# EAGLE library part 330-25E (library dec-con)
Tapped Delay Line
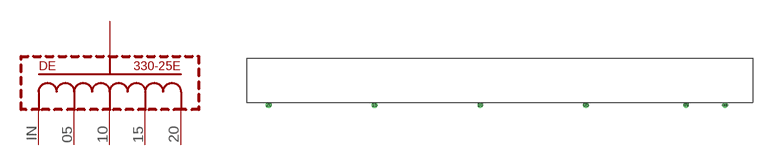
[diagram p50: symbol with the pads of 330-25E; footprint 330-25E]

Designator prefix DE

## 330-25E  [330-25E]
05  5  pas
10  10  pas
15  15  pas
20  20  pas
GND  GND  pas
IN  0  pas

## Footprint 330-25E (pad centres in mm)
Delay Line
drill 0.813: 05 77.47,0; 10 53.34,0; 15 29.21,0; 20 5.08,0; GND 109.22,0; IN 100.33,0